# EAGLE library part D24V22F5 (library Power Board Custom)
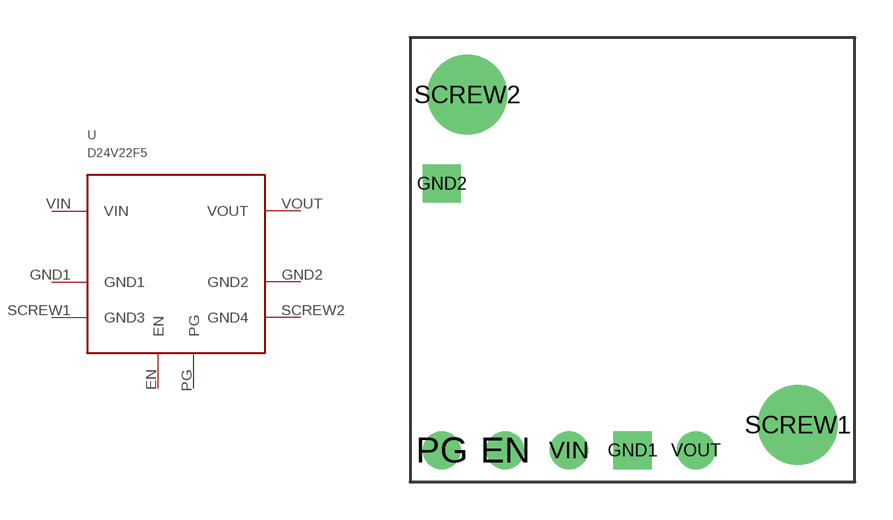
[diagram p1: symbol with the pads of D24V22; footprint D24V22]

Designator prefix -

## D24V22F5  [D24V22]
EN  EN  out
GND1  GND1  pwr
GND2  GND2  pwr
PG  PG  in
SCREW1  GND3  pwr
SCREW2  GND4  pwr
VIN  VIN  pwr
VOUT  VOUT  pwr

## Footprint D24V22 (pad centres in mm)
drill 1.016: EN -5.08,-7.62; PG -7.62,-7.62; VIN -2.54,-7.62; VOUT 2.54,-7.62
drill 1.016 square: GND1 0,-7.62; GND2 -7.62,3.048
drill 2.184: SCREW1 6.604,-6.604; SCREW2 -6.604,6.604